# Altium schematic symbol library kmilo17pet-LT_PMIC_LT.SchLib: 2252 symbols (part 37 of 124)
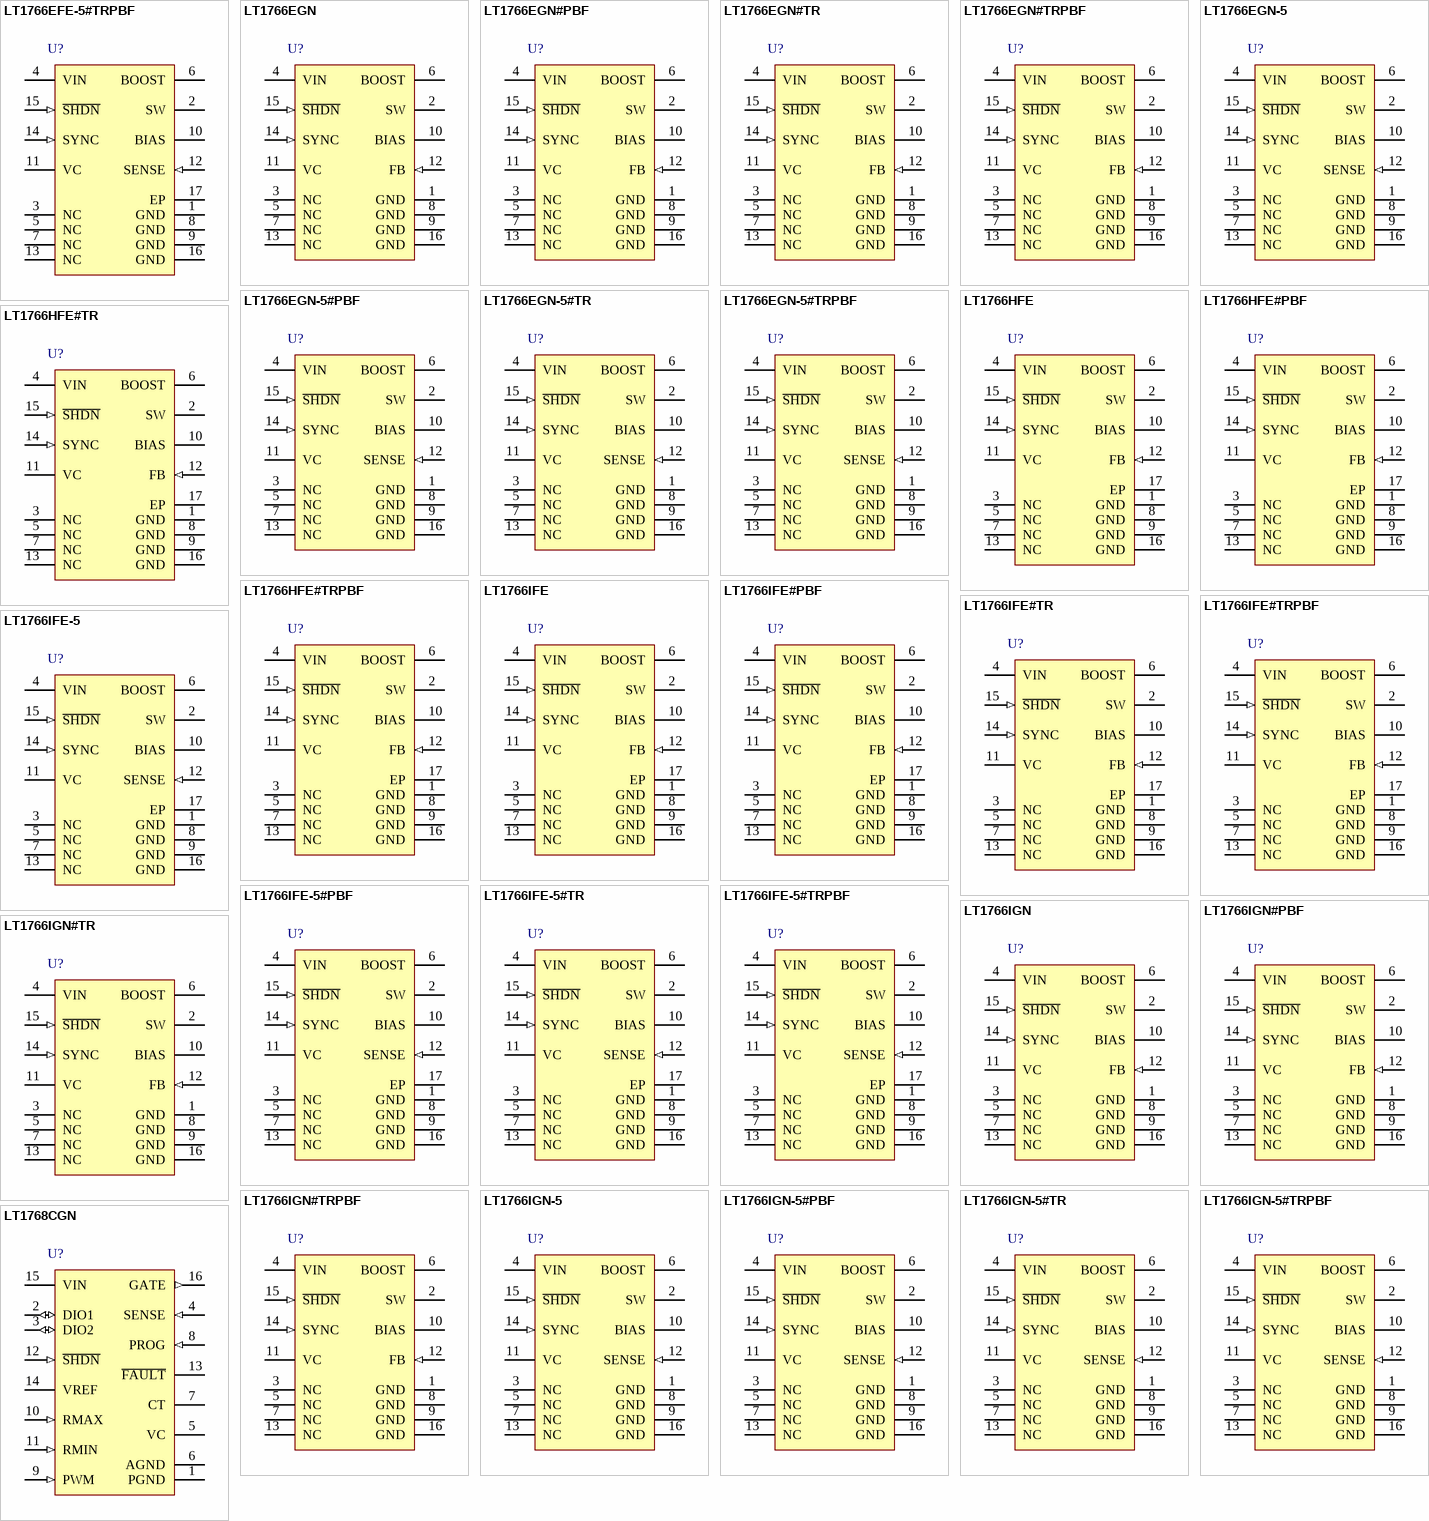
[diagram p107: symbols LT1766EFE-5#TRPBF to LT1768CGN]

## LT1766IGN
designator U?
1.5 A, 200 kHz Step-Down Switching Regulator, 16-pin SOP (GN-16), -40 to 125 degC; Manufacturer: Linear Technology; PartNumber: LT1766IGN; Number of Outputs: 1; PackageReference: GN-16; PackageDescription: 16-Pin Plastic SSOP, Body 4.9 x 3.9 mm, Pitch 0.635 mm; Supplier 1: Digi-Key; Supplier Part Number 1: LT1766IGN-ND; RoHS: FALSE
footprint LT-GN-16_N (SOP, 16-Leads, Body 5x4mm, Pitch 0.635mm, IPC Medium Density)
footprint LT-GN-16_L (SOP, 16-Leads, Body 5x4mm, Pitch 0.635mm, IPC High Density)
footprint LT-GN-16_M (SOP, 16-Leads, Body 5x4mm, Pitch 0.635mm, IPC Low Density)
pins: 1 GND (power) "The GND pin connections act as the reference for the regulated output, so load regulation will suffer if the ¡°ground¡± end of the load is not at the same voltage as the GND pins of the IC. This condition will occur w(See Datasheet)", 2 SW (power) "The switch pin is the emitter of the on-chip power NPN switch. This pin is driven up to the input pin voltage during switch on time. Inductor current drives the switch pin negative during switch off time. Negative voltage is (See Datasheet)", 3 NC "No Connection.", 4 VIN (power) "This is the collector of the on-chip power NPN switch. VIN powers the internal control circuitry when a voltage on the BIAS pin is not present. High dI/dt edges occur on this pin during switch turn on and off. Keep the path (See Datasheet)", 5 NC "No Connection.", 6 BOOST "The BOOST pin is used to provide a drive voltage, higher than the input voltage, to the internal bipolar NPN power switch. Without this added voltage, the typical switch voltage loss would be about 1.5V. The additional BOOST (See Datasheet)", 7 NC "No Connection.", 8 GND (power) "The GND pin connections act as the reference for the regulated output, so load regulation will suffer if the ¡°ground¡± end of the load is not at the same voltage as the GND pins of the IC. This condition will occur w(See Datasheet)", 9 GND (power) "The GND pin connections act as the reference for the regulated output, so load regulation will suffer if the ¡°ground¡± end of the load is not at the same voltage as the GND pins of the IC. This condition will occur w(See Datasheet)", 10 BIAS (power) "The BIAS pin is used to improve efficiency when operating at higher input voltages and light load current. Connecting this pin to the regulated output voltage forces most of the internal circuitry to draw its operating (See Datasheet)", 11 VC "The VC pin is the output of the error amplifier and the input of the peak switch current comparator. It is normally used for frequency compensation, but can also serve as a current clamp or control loop override. VC sits at (See Datasheet)", 12 FB (in) "The feedback pin is used to set the output voltage using an external voltage divider that generates 1.22V at the pin for the desired output voltage. The 5V fixed output voltage parts have the divider included on the chip and (See Datasheet)", 13 NC "No Connection.", 14 SYNC (in) "The SYNC pin is used to synchronize the internal oscillator to an external signal. It is directly logic compatible and can be driven with any signal between 10% and 90% duty cycle. The synchronizing range is equal to initial (See Datasheet)", 15 ~{SHDN} (in) "The S\H\D\N\ pin is used to turn off the regulator and to reduce input current to a few microamperes. This pin has two thresholds: one at 2.38V to disable switching and a second at 0.4V to force complete micropower shutdown. (See Datasheet)", 16 GND (power) "The GND pin connections act as the reference for the regulated output, so load regulation will suffer if the ¡°ground¡± end of the load is not at the same voltage as the GND pins of the IC. This condition will occur w(See Datasheet)"

## LT1766IGN#PBF
designator U?
1.5 A, 200 kHz Step-Down Switching Regulator, 16-pin SOP (GN-16), -40 to 125 degC, Pb-Free; Manufacturer: Linear Technology; PartNumber: LT1766IGN#PBF; Number of Outputs: 1; PackageReference: GN-16; PackageDescription: 16-Pin Plastic SSOP, Body 4.9 x 3.9 mm, Pitch 0.635 mm; Supplier 1: Digi-Key; Supplier Part Number 1: LT1766IGN#PBF-ND; RoHS: TRUE
footprint LT-GN-16_N (SOP, 16-Leads, Body 5x4mm, Pitch 0.635mm, IPC Medium Density)
footprint LT-GN-16_L (SOP, 16-Leads, Body 5x4mm, Pitch 0.635mm, IPC High Density)
footprint LT-GN-16_M (SOP, 16-Leads, Body 5x4mm, Pitch 0.635mm, IPC Low Density)
pins: 1 GND (power) "The GND pin connections act as the reference for the regulated output, so load regulation will suffer if the ¡°ground¡± end of the load is not at the same voltage as the GND pins of the IC. This condition will occur w(See Datasheet)", 2 SW (power) "The switch pin is the emitter of the on-chip power NPN switch. This pin is driven up to the input pin voltage during switch on time. Inductor current drives the switch pin negative during switch off time. Negative voltage is (See Datasheet)", 3 NC "No Connection.", 4 VIN (power) "This is the collector of the on-chip power NPN switch. VIN powers the internal control circuitry when a voltage on the BIAS pin is not present. High dI/dt edges occur on this pin during switch turn on and off. Keep the path (See Datasheet)", 5 NC "No Connection.", 6 BOOST "The BOOST pin is used to provide a drive voltage, higher than the input voltage, to the internal bipolar NPN power switch. Without this added voltage, the typical switch voltage loss would be about 1.5V. The additional BOOST (See Datasheet)", 7 NC "No Connection.", 8 GND (power) "The GND pin connections act as the reference for the regulated output, so load regulation will suffer if the ¡°ground¡± end of the load is not at the same voltage as the GND pins of the IC. This condition will occur w(See Datasheet)", 9 GND (power) "The GND pin connections act as the reference for the regulated output, so load regulation will suffer if the ¡°ground¡± end of the load is not at the same voltage as the GND pins of the IC. This condition will occur w(See Datasheet)", 10 BIAS (power) "The BIAS pin is used to improve efficiency when operating at higher input voltages and light load current. Connecting this pin to the regulated output voltage forces most of the internal circuitry to draw its operating (See Datasheet)", 11 VC "The VC pin is the output of the error amplifier and the input of the peak switch current comparator. It is normally used for frequency compensation, but can also serve as a current clamp or control loop override. VC sits at (See Datasheet)", 12 FB (in) "The feedback pin is used to set the output voltage using an external voltage divider that generates 1.22V at the pin for the desired output voltage. The 5V fixed output voltage parts have the divider included on the chip and (See Datasheet)", 13 NC "No Connection.", 14 SYNC (in) "The SYNC pin is used to synchronize the internal oscillator to an external signal. It is directly logic compatible and can be driven with any signal between 10% and 90% duty cycle. The synchronizing range is equal to initial (See Datasheet)", 15 ~{SHDN} (in) "The S\H\D\N\ pin is used to turn off the regulator and to reduce input current to a few microamperes. This pin has two thresholds: one at 2.38V to disable switching and a second at 0.4V to force complete micropower shutdown. (See Datasheet)", 16 GND (power) "The GND pin connections act as the reference for the regulated output, so load regulation will suffer if the ¡°ground¡± end of the load is not at the same voltage as the GND pins of the IC. This condition will occur w(See Datasheet)"

## LT1766IGN#TR
designator U?
1.5 A, 200 kHz Step-Down Switching Regulator, 16-pin SOP (GN-16), -40 to 125 degC, Tape and Reel; Manufacturer: Linear Technology; PartNumber: LT1766IGN#TR; Number of Outputs: 1; PackageReference: GN-16; PackageDescription: 16-Pin Plastic SSOP, Body 4.9 x 3.9 mm, Pitch 0.635 mm; Supplier 1: Digi-Key; Supplier Part Number 1: LT1766IGNTR-ND; RoHS: FALSE
footprint LT-GN-16_N (SOP, 16-Leads, Body 5x4mm, Pitch 0.635mm, IPC Medium Density)
footprint LT-GN-16_L (SOP, 16-Leads, Body 5x4mm, Pitch 0.635mm, IPC High Density)
footprint LT-GN-16_M (SOP, 16-Leads, Body 5x4mm, Pitch 0.635mm, IPC Low Density)
pins: 1 GND (power) "The GND pin connections act as the reference for the regulated output, so load regulation will suffer if the ¡°ground¡± end of the load is not at the same voltage as the GND pins of the IC. This condition will occur w(See Datasheet)", 2 SW (power) "The switch pin is the emitter of the on-chip power NPN switch. This pin is driven up to the input pin voltage during switch on time. Inductor current drives the switch pin negative during switch off time. Negative voltage is (See Datasheet)", 3 NC "No Connection.", 4 VIN (power) "This is the collector of the on-chip power NPN switch. VIN powers the internal control circuitry when a voltage on the BIAS pin is not present. High dI/dt edges occur on this pin during switch turn on and off. Keep the path (See Datasheet)", 5 NC "No Connection.", 6 BOOST "The BOOST pin is used to provide a drive voltage, higher than the input voltage, to the internal bipolar NPN power switch. Without this added voltage, the typical switch voltage loss would be about 1.5V. The additional BOOST (See Datasheet)", 7 NC "No Connection.", 8 GND (power) "The GND pin connections act as the reference for the regulated output, so load regulation will suffer if the ¡°ground¡± end of the load is not at the same voltage as the GND pins of the IC. This condition will occur w(See Datasheet)", 9 GND (power) "The GND pin connections act as the reference for the regulated output, so load regulation will suffer if the ¡°ground¡± end of the load is not at the same voltage as the GND pins of the IC. This condition will occur w(See Datasheet)", 10 BIAS (power) "The BIAS pin is used to improve efficiency when operating at higher input voltages and light load current. Connecting this pin to the regulated output voltage forces most of the internal circuitry to draw its operating (See Datasheet)", 11 VC "The VC pin is the output of the error amplifier and the input of the peak switch current comparator. It is normally used for frequency compensation, but can also serve as a current clamp or control loop override. VC sits at (See Datasheet)", 12 FB (in) "The feedback pin is used to set the output voltage using an external voltage divider that generates 1.22V at the pin for the desired output voltage. The 5V fixed output voltage parts have the divider included on the chip and (See Datasheet)", 13 NC "No Connection.", 14 SYNC (in) "The SYNC pin is used to synchronize the internal oscillator to an external signal. It is directly logic compatible and can be driven with any signal between 10% and 90% duty cycle. The synchronizing range is equal to initial (See Datasheet)", 15 ~{SHDN} (in) "The S\H\D\N\ pin is used to turn off the regulator and to reduce input current to a few microamperes. This pin has two thresholds: one at 2.38V to disable switching and a second at 0.4V to force complete micropower shutdown. (See Datasheet)", 16 GND (power) "The GND pin connections act as the reference for the regulated output, so load regulation will suffer if the ¡°ground¡± end of the load is not at the same voltage as the GND pins of the IC. This condition will occur w(See Datasheet)"

## LT1766IGN#TRPBF
designator U?
1.5 A, 200 kHz Step-Down Switching Regulator, 16-pin SOP (GN-16), -40 to 125 degC, Pb-Free, Tape and Reel; Manufacturer: Linear Technology; PartNumber: LT1766IGN#TRPBF; Number of Outputs: 1; PackageReference: GN-16; PackageDescription: 16-Pin Plastic SSOP, Body 4.9 x 3.9 mm, Pitch 0.635 mm; Supplier 1: Digi-Key; Supplier Part Number 1: LT1766IGN#TRPBF-ND; RoHS: TRUE
footprint LT-GN-16_N (SOP, 16-Leads, Body 5x4mm, Pitch 0.635mm, IPC Medium Density)
footprint LT-GN-16_L (SOP, 16-Leads, Body 5x4mm, Pitch 0.635mm, IPC High Density)
footprint LT-GN-16_M (SOP, 16-Leads, Body 5x4mm, Pitch 0.635mm, IPC Low Density)
pins: 1 GND (power) "The GND pin connections act as the reference for the regulated output, so load regulation will suffer if the ¡°ground¡± end of the load is not at the same voltage as the GND pins of the IC. This condition will occur w(See Datasheet)", 2 SW (power) "The switch pin is the emitter of the on-chip power NPN switch. This pin is driven up to the input pin voltage during switch on time. Inductor current drives the switch pin negative during switch off time. Negative voltage is (See Datasheet)", 3 NC "No Connection.", 4 VIN (power) "This is the collector of the on-chip power NPN switch. VIN powers the internal control circuitry when a voltage on the BIAS pin is not present. High dI/dt edges occur on this pin during switch turn on and off. Keep the path (See Datasheet)", 5 NC "No Connection.", 6 BOOST "The BOOST pin is used to provide a drive voltage, higher than the input voltage, to the internal bipolar NPN power switch. Without this added voltage, the typical switch voltage loss would be about 1.5V. The additional BOOST (See Datasheet)", 7 NC "No Connection.", 8 GND (power) "The GND pin connections act as the reference for the regulated output, so load regulation will suffer if the ¡°ground¡± end of the load is not at the same voltage as the GND pins of the IC. This condition will occur w(See Datasheet)", 9 GND (power) "The GND pin connections act as the reference for the regulated output, so load regulation will suffer if the ¡°ground¡± end of the load is not at the same voltage as the GND pins of the IC. This condition will occur w(See Datasheet)", 10 BIAS (power) "The BIAS pin is used to improve efficiency when operating at higher input voltages and light load current. Connecting this pin to the regulated output voltage forces most of the internal circuitry to draw its operating (See Datasheet)", 11 VC "The VC pin is the output of the error amplifier and the input of the peak switch current comparator. It is normally used for frequency compensation, but can also serve as a current clamp or control loop override. VC sits at (See Datasheet)", 12 FB (in) "The feedback pin is used to set the output voltage using an external voltage divider that generates 1.22V at the pin for the desired output voltage. The 5V fixed output voltage parts have the divider included on the chip and (See Datasheet)", 13 NC "No Connection.", 14 SYNC (in) "The SYNC pin is used to synchronize the internal oscillator to an external signal. It is directly logic compatible and can be driven with any signal between 10% and 90% duty cycle. The synchronizing range is equal to initial (See Datasheet)", 15 ~{SHDN} (in) "The S\H\D\N\ pin is used to turn off the regulator and to reduce input current to a few microamperes. This pin has two thresholds: one at 2.38V to disable switching and a second at 0.4V to force complete micropower shutdown. (See Datasheet)", 16 GND (power) "The GND pin connections act as the reference for the regulated output, so load regulation will suffer if the ¡°ground¡± end of the load is not at the same voltage as the GND pins of the IC. This condition will occur w(See Datasheet)"

## LT1766IGN-5
designator U?
1.5 A, 200 kHz Step-Down Switching Regulator, 16-pin SOP (GN-16), -40 to 125 degC; Manufacturer: Linear Technology; PartNumber: LT1766IGN-5; Number of Outputs: 1; PackageReference: GN-16; PackageDescription: 16-Pin Plastic SSOP, Body 4.9 x 3.9 mm, Pitch 0.635 mm; Supplier 1: Digi-Key; Supplier Part Number 1: LT1766IGN-5-ND; RoHS: FALSE
footprint LT-GN-16_N (SOP, 16-Leads, Body 5x4mm, Pitch 0.635mm, IPC Medium Density)
footprint LT-GN-16_L (SOP, 16-Leads, Body 5x4mm, Pitch 0.635mm, IPC High Density)
footprint LT-GN-16_M (SOP, 16-Leads, Body 5x4mm, Pitch 0.635mm, IPC Low Density)
pins: 1 GND (power) "The GND pin connections act as the reference for the regulated output, so load regulation will suffer if the “ground?end of the load is not at the same voltage as the GND pins of the IC. This condition will occur w(See Datasheet)", 2 SW (power) "The switch pin is the emitter of the on-chip power NPN switch. This pin is driven up to the input pin voltage during switch on time. Inductor current drives the switch pin negative during switch off time. Negative voltage is (See Datasheet)", 3 NC "No Connection.", 4 VIN (power) "This is the collector of the on-chip power NPN switch. VIN powers the internal control circuitry when a voltage on the BIAS pin is not present. High dI/dt edges occur on this pin during switch turn on and off. Keep the path (See Datasheet)", 5 NC "No Connection.", 6 BOOST "The BOOST pin is used to provide a drive voltage, higher than the input voltage, to the internal bipolar NPN power switch. Without this added voltage, the typical switch voltage loss would be about 1.5V. The additional BOOST (See Datasheet)", 7 NC "No Connection.", 8 GND (power) "The GND pin connections act as the reference for the regulated output, so load regulation will suffer if the “ground?end of the load is not at the same voltage as the GND pins of the IC. This condition will occur w(See Datasheet)", 9 GND (power) "The GND pin connections act as the reference for the regulated output, so load regulation will suffer if the “ground?end of the load is not at the same voltage as the GND pins of the IC. This condition will occur w(See Datasheet)", 10 BIAS (power) "The BIAS pin is used to improve efficiency when operating at higher input voltages and light load current. Connecting this pin to the regulated output voltage forces most of the internal circuitry to draw its operating (See Datasheet)", 11 VC "The VC pin is the output of the error amplifier and the input of the peak switch current comparator. It is normally used for frequency compensation, but can also serve as a current clamp or control loop override. VC sits at (See Datasheet)", 12 SENSE (in) "The feedback pin is used to set the output voltage using an external voltage divider that generates 1.22V at the pin for the desired output voltage. The 5V fixed output voltage parts have the divider included on the chip and (See Datasheet)", 13 NC "No Connection.", 14 SYNC (in) "The SYNC pin is used to synchronize the internal oscillator to an external signal. It is directly logic compatible and can be driven with any signal between 10% and 90% duty cycle. The synchronizing range is equal to initial (See Datasheet)", 15 ~{SHDN} (in) "The S\H\D\N\ pin is used to turn off the regulator and to reduce input current to a few microamperes. This pin has two thresholds: one at 2.38V to disable switching and a second at 0.4V to force complete micropower shutdown. (See Datasheet)", 16 GND (power) "The GND pin connections act as the reference for the regulated output, so load regulation will suffer if the “ground?end of the load is not at the same voltage as the GND pins of the IC. This condition will occur w(See Datasheet)"

## LT1766IGN-5#PBF
designator U?
1.5 A, 200 kHz Step-Down Switching Regulator, 16-pin SOP (GN-16), -40 to 125 degC, Pb-Free; Manufacturer: Linear Technology; PartNumber: LT1766IGN-5#PBF; Number of Outputs: 1; PackageReference: GN-16; PackageDescription: 16-Pin Plastic SSOP, Body 4.9 x 3.9 mm, Pitch 0.635 mm; Supplier 1: Digi-Key; Supplier Part Number 1: LT1766IGN-5#PBF-ND; RoHS: TRUE
footprint LT-GN-16_N (SOP, 16-Leads, Body 5x4mm, Pitch 0.635mm, IPC Medium Density)
footprint LT-GN-16_L (SOP, 16-Leads, Body 5x4mm, Pitch 0.635mm, IPC High Density)
footprint LT-GN-16_M (SOP, 16-Leads, Body 5x4mm, Pitch 0.635mm, IPC Low Density)
pins: 1 GND (power) "The GND pin connections act as the reference for the regulated output, so load regulation will suffer if the “ground?end of the load is not at the same voltage as the GND pins of the IC. This condition will occur w(See Datasheet)", 2 SW (power) "The switch pin is the emitter of the on-chip power NPN switch. This pin is driven up to the input pin voltage during switch on time. Inductor current drives the switch pin negative during switch off time. Negative voltage is (See Datasheet)", 3 NC "No Connection.", 4 VIN (power) "This is the collector of the on-chip power NPN switch. VIN powers the internal control circuitry when a voltage on the BIAS pin is not present. High dI/dt edges occur on this pin during switch turn on and off. Keep the path (See Datasheet)", 5 NC "No Connection.", 6 BOOST "The BOOST pin is used to provide a drive voltage, higher than the input voltage, to the internal bipolar NPN power switch. Without this added voltage, the typical switch voltage loss would be about 1.5V. The additional BOOST (See Datasheet)", 7 NC "No Connection.", 8 GND (power) "The GND pin connections act as the reference for the regulated output, so load regulation will suffer if the “ground?end of the load is not at the same voltage as the GND pins of the IC. This condition will occur w(See Datasheet)", 9 GND (power) "The GND pin connections act as the reference for the regulated output, so load regulation will suffer if the “ground?end of the load is not at the same voltage as the GND pins of the IC. This condition will occur w(See Datasheet)", 10 BIAS (power) "The BIAS pin is used to improve efficiency when operating at higher input voltages and light load current. Connecting this pin to the regulated output voltage forces most of the internal circuitry to draw its operating (See Datasheet)", 11 VC "The VC pin is the output of the error amplifier and the input of the peak switch current comparator. It is normally used for frequency compensation, but can also serve as a current clamp or control loop override. VC sits at (See Datasheet)", 12 SENSE (in) "The feedback pin is used to set the output voltage using an external voltage divider that generates 1.22V at the pin for the desired output voltage. The 5V fixed output voltage parts have the divider included on the chip and (See Datasheet)", 13 NC "No Connection.", 14 SYNC (in) "The SYNC pin is used to synchronize the internal oscillator to an external signal. It is directly logic compatible and can be driven with any signal between 10% and 90% duty cycle. The synchronizing range is equal to initial (See Datasheet)", 15 ~{SHDN} (in) "The S\H\D\N\ pin is used to turn off the regulator and to reduce input current to a few microamperes. This pin has two thresholds: one at 2.38V to disable switching and a second at 0.4V to force complete micropower shutdown. (See Datasheet)", 16 GND (power) "The GND pin connections act as the reference for the regulated output, so load regulation will suffer if the “ground?end of the load is not at the same voltage as the GND pins of the IC. This condition will occur w(See Datasheet)"

## LT1766IGN-5#TR
designator U?
1.5 A, 200 kHz Step-Down Switching Regulator, 16-pin SOP (GN-16), -40 to 125 degC, Tape and Reel; Manufacturer: Linear Technology; PartNumber: LT1766IGN-5#TR; Number of Outputs: 1; PackageReference: GN-16; PackageDescription: 16-Pin Plastic SSOP, Body 4.9 x 3.9 mm, Pitch 0.635 mm; Supplier 1: Digi-Key; Supplier Part Number 1: LT1766IGN-5TR-ND; RoHS: FALSE
footprint LT-GN-16_N (SOP, 16-Leads, Body 5x4mm, Pitch 0.635mm, IPC Medium Density)
footprint LT-GN-16_L (SOP, 16-Leads, Body 5x4mm, Pitch 0.635mm, IPC High Density)
footprint LT-GN-16_M (SOP, 16-Leads, Body 5x4mm, Pitch 0.635mm, IPC Low Density)
pins: 1 GND (power) "The GND pin connections act as the reference for the regulated output, so load regulation will suffer if the “ground?end of the load is not at the same voltage as the GND pins of the IC. This condition will occur w(See Datasheet)", 2 SW (power) "The switch pin is the emitter of the on-chip power NPN switch. This pin is driven up to the input pin voltage during switch on time. Inductor current drives the switch pin negative during switch off time. Negative voltage is (See Datasheet)", 3 NC "No Connection.", 4 VIN (power) "This is the collector of the on-chip power NPN switch. VIN powers the internal control circuitry when a voltage on the BIAS pin is not present. High dI/dt edges occur on this pin during switch turn on and off. Keep the path (See Datasheet)", 5 NC "No Connection.", 6 BOOST "The BOOST pin is used to provide a drive voltage, higher than the input voltage, to the internal bipolar NPN power switch. Without this added voltage, the typical switch voltage loss would be about 1.5V. The additional BOOST (See Datasheet)", 7 NC "No Connection.", 8 GND (power) "The GND pin connections act as the reference for the regulated output, so load regulation will suffer if the “ground?end of the load is not at the same voltage as the GND pins of the IC. This condition will occur w(See Datasheet)", 9 GND (power) "The GND pin connections act as the reference for the regulated output, so load regulation will suffer if the “ground?end of the load is not at the same voltage as the GND pins of the IC. This condition will occur w(See Datasheet)", 10 BIAS (power) "The BIAS pin is used to improve efficiency when operating at higher input voltages and light load current. Connecting this pin to the regulated output voltage forces most of the internal circuitry to draw its operating (See Datasheet)", 11 VC "The VC pin is the output of the error amplifier and the input of the peak switch current comparator. It is normally used for frequency compensation, but can also serve as a current clamp or control loop override. VC sits at (See Datasheet)", 12 SENSE (in) "The feedback pin is used to set the output voltage using an external voltage divider that generates 1.22V at the pin for the desired output voltage. The 5V fixed output voltage parts have the divider included on the chip and (See Datasheet)", 13 NC "No Connection.", 14 SYNC (in) "The SYNC pin is used to synchronize the internal oscillator to an external signal. It is directly logic compatible and can be driven with any signal between 10% and 90% duty cycle. The synchronizing range is equal to initial (See Datasheet)", 15 ~{SHDN} (in) "The S\H\D\N\ pin is used to turn off the regulator and to reduce input current to a few microamperes. This pin has two thresholds: one at 2.38V to disable switching and a second at 0.4V to force complete micropower shutdown. (See Datasheet)", 16 GND (power) "The GND pin connections act as the reference for the regulated output, so load regulation will suffer if the “ground?end of the load is not at the same voltage as the GND pins of the IC. This condition will occur w(See Datasheet)"

## LT1766IGN-5#TRPBF
designator U?
1.5 A, 200 kHz Step-Down Switching Regulator, 16-pin SOP (GN-16), -40 to 125 degC, Pb-Free, Tape and Reel; Manufacturer: Linear Technology; PartNumber: LT1766IGN-5#TRPBF; Number of Outputs: 1; PackageReference: GN-16; PackageDescription: 16-Pin Plastic SSOP, Body 4.9 x 3.9 mm, Pitch 0.635 mm; Supplier 1: Digi-Key; Supplier Part Number 1: LT1766IGN-5#TRPBF-ND; RoHS: TRUE
footprint LT-GN-16_N (SOP, 16-Leads, Body 5x4mm, Pitch 0.635mm, IPC Medium Density)
footprint LT-GN-16_L (SOP, 16-Leads, Body 5x4mm, Pitch 0.635mm, IPC High Density)
footprint LT-GN-16_M (SOP, 16-Leads, Body 5x4mm, Pitch 0.635mm, IPC Low Density)
pins: 1 GND (power) "The GND pin connections act as the reference for the regulated output, so load regulation will suffer if the “ground?end of the load is not at the same voltage as the GND pins of the IC. This condition will occur w(See Datasheet)", 2 SW (power) "The switch pin is the emitter of the on-chip power NPN switch. This pin is driven up to the input pin voltage during switch on time. Inductor current drives the switch pin negative during switch off time. Negative voltage is (See Datasheet)", 3 NC "No Connection.", 4 VIN (power) "This is the collector of the on-chip power NPN switch. VIN powers the internal control circuitry when a voltage on the BIAS pin is not present. High dI/dt edges occur on this pin during switch turn on and off. Keep the path (See Datasheet)", 5 NC "No Connection.", 6 BOOST "The BOOST pin is used to provide a drive voltage, higher than the input voltage, to the internal bipolar NPN power switch. Without this added voltage, the typical switch voltage loss would be about 1.5V. The additional BOOST (See Datasheet)", 7 NC "No Connection.", 8 GND (power) "The GND pin connections act as the reference for the regulated output, so load regulation will suffer if the “ground?end of the load is not at the same voltage as the GND pins of the IC. This condition will occur w(See Datasheet)", 9 GND (power) "The GND pin connections act as the reference for the regulated output, so load regulation will suffer if the “ground?end of the load is not at the same voltage as the GND pins of the IC. This condition will occur w(See Datasheet)", 10 BIAS (power) "The BIAS pin is used to improve efficiency when operating at higher input voltages and light load current. Connecting this pin to the regulated output voltage forces most of the internal circuitry to draw its operating (See Datasheet)", 11 VC "The VC pin is the output of the error amplifier and the input of the peak switch current comparator. It is normally used for frequency compensation, but can also serve as a current clamp or control loop override. VC sits at (See Datasheet)", 12 SENSE (in) "The feedback pin is used to set the output voltage using an external voltage divider that generates 1.22V at the pin for the desired output voltage. The 5V fixed output voltage parts have the divider included on the chip and (See Datasheet)", 13 NC "No Connection.", 14 SYNC (in) "The SYNC pin is used to synchronize the internal oscillator to an external signal. It is directly logic compatible and can be driven with any signal between 10% and 90% duty cycle. The synchronizing range is equal to initial (See Datasheet)", 15 ~{SHDN} (in) "The S\H\D\N\ pin is used to turn off the regulator and to reduce input current to a few microamperes. This pin has two thresholds: one at 2.38V to disable switching and a second at 0.4V to force complete micropower shutdown. (See Datasheet)", 16 GND (power) "The GND pin connections act as the reference for the regulated output, so load regulation will suffer if the “ground?end of the load is not at the same voltage as the GND pins of the IC. This condition will occur w(See Datasheet)"

## LT1768CGN
designator U?
High Power CCFL Controller for Wide Dimming Range and Maximum Lamp Lifetime Max, 16-pin SOP (GN-16), 0 to 125 degC; Manufacturer: Linear Technology; PartNumber: LT1768CGN; Number of Outputs: 1; PackageReference: GN-16; PackageDescription: 16-Pin Plastic SSOP, Body 4.9 x 3.9 mm, Pitch 0.635 mm; Supplier 1: Digi-Key; Supplier Part Number 1: LT1768CGN-ND; RoHS: FALSE
footprint LT-GN-16_N (SOP, 16-Leads, Body 5x4mm, Pitch 0.635mm, IPC Medium Density)
footprint LT-GN-16_L (SOP, 16-Leads, Body 5x4mm, Pitch 0.635mm, IPC High Density)
footprint LT-GN-16_M (SOP, 16-Leads, Body 5x4mm, Pitch 0.635mm, IPC Low Density)
pins: 1 PGND (power) "The PGND pin is the high current ground path. High switching current transients and lamp current flow through the PGND pin.", 2 DIO1 (io) "Each DIO pin is the common connection between the cathode and anode of two internal diodes. The remaining terminals of the diodes are connected to PGND. In a typical application, the DIO1/2 pins are connected to the low (See Datasheet)", 3 DIO2 (io) "Each DIO pin is the common connection between the cathode and anode of two internal diodes. The remaining terminals of the diodes are connected to PGND. In a typical application, the DIO1/2 pins are connected to the low (See Datasheet)", 4 SENSE (in) "The SENSE pin is the input to the current sense comparator. The threshold of the comparator is a function of the voltage on the VC pin and the switch duty cycle. The maximum threshold is set at 100mV for duty cycle less than (See Datasheet)", 5 VC "The VC pin is the summing junction for the programming current and the half wave rectified lamp current and is also an input to the current sense comparator . A fraction of the voltage on the VC pin is compared to the (See Datasheet)", 6 AGND (power) "The AGND pin is the low current analog ground. It is the negative sense terminal for the internal reference and current sense amplifier. Connect critical external components that terminate to ground directly to this pin for (See Datasheet)", 7 CT "The value of capacitance on the CT pin determines the PWM modulation frequency. The transfer function of capacitance to frequency equals 22Hz/CT(uF). The frequency present on the CT pin also determines the maximum time (See Datasheet)", 8 PROG (in) "The PROG pin controls the lamp current by converting a DC input voltage range of 0V to 5V to source current into the VC pin. The transfer function from programming voltage to VC current is illustrated in the following table.", 9 PWM (in) "The PWM pin controls the percentage of the PROG range between 1V and 4V that is to be pulse width modulated. The percentage is defined by [(VPWM-1)/ 3] ?100%. The minimum and maximum percentages are 25% (1.75V) and 100(See Datasheet)", 10 RMAX (in) "The RMAX pin outputs a regulated voltage of 1.25V that is to be loaded with an external resistor. The current through the external resistor sets the maximum lamp current. Maximum lamp current in a dual lamp application will (See Datasheet)", 11 RMIN (in) "The RMIN pin outputs a regulated voltage of 1.26V that is to be loaded with an external resistor. The current through the external resistor sets the minimum lamp current. Minimum lamp current in a dual lamp application will (See Datasheet)", 12 ~{SHDN} (in) "The S\H\D\N\ pin controls the operation of the LT1768. Pulling the S\H\D\N\ pin above 1.26V or leaving the pin open will result in normal operation of the LT1768. Pulling the S\H\D\N\ pin below 1V causes a complete shutdown (See Datasheet)", 13 ~{FAULT} (oc) "The F\A\U\L\T\ pin is an open collector output with a sink capability of 1mA that is activated when lamp current falls below 125uA in either DIO1 or DIO2 for at least 1 full PWM cycle.", 14 VREF (power) "The VREF pin is a regulated 5V output that is derived from the VIN pin. The regulated voltage provides up to 10mA of current to power external circuitry. During undervoltage lockout, shutdown mode or thermal shutdown, drive (See Datasheet)", 15 VIN (power) "The VIN pin is the voltage supply pin for the LT1768. For normal operation, the VIN pin must be above an undervoltage lockout of 7.9V and below a maximum of 24V.", 16 GATE (out) "The GATE pin is the output of a NPN high current output stage used to drive the gate of an external MOSFET. It has a dynamic source and sink capability of 1.5A. During normal operation, the GATE pin is driven high at the (See Datasheet)"

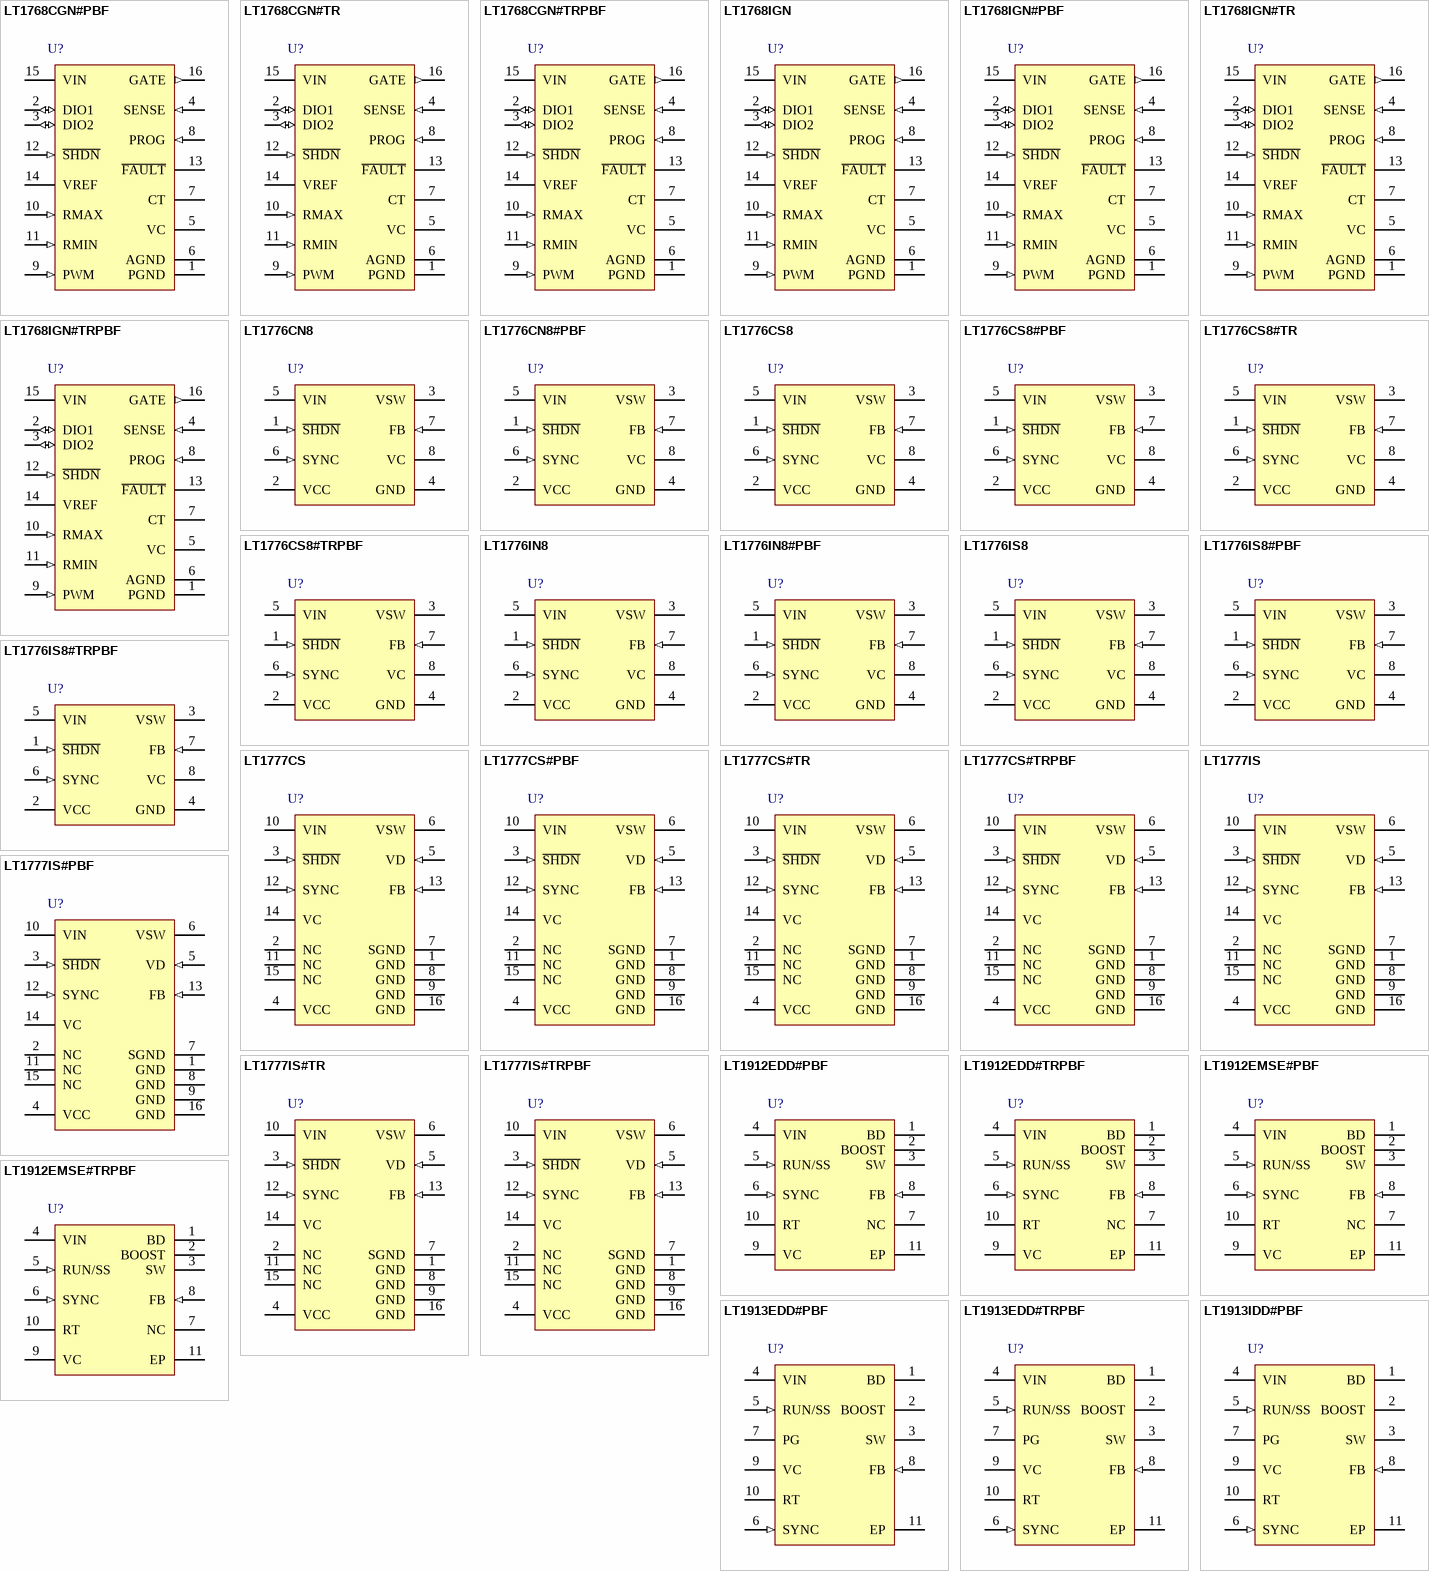
[diagram p23: symbols LT1768CGN#PBF to LT1913IDD#PBF]

## LT1768CGN#PBF
designator U?
High Power CCFL Controller for Wide Dimming Range and Maximum Lamp Lifetime Max, 16-pin SOP (GN-16), 0 to 125 degC, Pb-Free; Manufacturer: Linear Technology; PartNumber: LT1768CGN#PBF; Number of Outputs: 1; PackageReference: GN-16; PackageDescription: 16-Pin Plastic SSOP, Body 4.9 x 3.9 mm, Pitch 0.635 mm; Supplier 1: Digi-Key; Supplier Part Number 1: LT1768CGN#PBF-ND; RoHS: TRUE
footprint LT-GN-16_N (SOP, 16-Leads, Body 5x4mm, Pitch 0.635mm, IPC Medium Density)
footprint LT-GN-16_L (SOP, 16-Leads, Body 5x4mm, Pitch 0.635mm, IPC High Density)
footprint LT-GN-16_M (SOP, 16-Leads, Body 5x4mm, Pitch 0.635mm, IPC Low Density)
pins: 1 PGND (power) "The PGND pin is the high current ground path. High switching current transients and lamp current flow through the PGND pin.", 2 DIO1 (io) "Each DIO pin is the common connection between the cathode and anode of two internal diodes. The remaining terminals of the diodes are connected to PGND. In a typical application, the DIO1/2 pins are connected to the low (See Datasheet)", 3 DIO2 (io) "Each DIO pin is the common connection between the cathode and anode of two internal diodes. The remaining terminals of the diodes are connected to PGND. In a typical application, the DIO1/2 pins are connected to the low (See Datasheet)", 4 SENSE (in) "The SENSE pin is the input to the current sense comparator. The threshold of the comparator is a function of the voltage on the VC pin and the switch duty cycle. The maximum threshold is set at 100mV for duty cycle less than (See Datasheet)", 5 VC "The VC pin is the summing junction for the programming current and the half wave rectified lamp current and is also an input to the current sense comparator . A fraction of the voltage on the VC pin is compared to the (See Datasheet)", 6 AGND (power) "The AGND pin is the low current analog ground. It is the negative sense terminal for the internal reference and current sense amplifier. Connect critical external components that terminate to ground directly to this pin for (See Datasheet)", 7 CT "The value of capacitance on the CT pin determines the PWM modulation frequency. The transfer function of capacitance to frequency equals 22Hz/CT(uF). The frequency present on the CT pin also determines the maximum time (See Datasheet)", 8 PROG (in) "The PROG pin controls the lamp current by converting a DC input voltage range of 0V to 5V to source current into the VC pin. The transfer function from programming voltage to VC current is illustrated in the following table.", 9 PWM (in) "The PWM pin controls the percentage of the PROG range between 1V and 4V that is to be pulse width modulated. The percentage is defined by [(VPWM-1)/ 3] ?100%. The minimum and maximum percentages are 25% (1.75V) and 100(See Datasheet)", 10 RMAX (in) "The RMAX pin outputs a regulated voltage of 1.25V that is to be loaded with an external resistor. The current through the external resistor sets the maximum lamp current. Maximum lamp current in a dual lamp application will (See Datasheet)", 11 RMIN (in) "The RMIN pin outputs a regulated voltage of 1.26V that is to be loaded with an external resistor. The current through the external resistor sets the minimum lamp current. Minimum lamp current in a dual lamp application will (See Datasheet)", 12 ~{SHDN} (in) "The S\H\D\N\ pin controls the operation of the LT1768. Pulling the S\H\D\N\ pin above 1.26V or leaving the pin open will result in normal operation of the LT1768. Pulling the S\H\D\N\ pin below 1V causes a complete shutdown (See Datasheet)", 13 ~{FAULT} (oc) "The F\A\U\L\T\ pin is an open collector output with a sink capability of 1mA that is activated when lamp current falls below 125uA in either DIO1 or DIO2 for at least 1 full PWM cycle.", 14 VREF (power) "The VREF pin is a regulated 5V output that is derived from the VIN pin. The regulated voltage provides up to 10mA of current to power external circuitry. During undervoltage lockout, shutdown mode or thermal shutdown, drive (See Datasheet)", 15 VIN (power) "The VIN pin is the voltage supply pin for the LT1768. For normal operation, the VIN pin must be above an undervoltage lockout of 7.9V and below a maximum of 24V.", 16 GATE (out) "The GATE pin is the output of a NPN high current output stage used to drive the gate of an external MOSFET. It has a dynamic source and sink capability of 1.5A. During normal operation, the GATE pin is driven high at the (See Datasheet)"

## LT1768CGN#TR
designator U?
High Power CCFL Controller for Wide Dimming Range and Maximum Lamp Lifetime Max, 16-pin SOP (GN-16), 0 to 125 degC, Tape and Reel; Manufacturer: Linear Technology; PartNumber: LT1768CGN#TR; Number of Outputs: 1; PackageReference: GN-16; PackageDescription: 16-Pin Plastic SSOP, Body 4.9 x 3.9 mm, Pitch 0.635 mm; Supplier 1: Digi-Key; Supplier Part Number 1: LT1768CGN#TR-ND; RoHS: FALSE
footprint LT-GN-16_N (SOP, 16-Leads, Body 5x4mm, Pitch 0.635mm, IPC Medium Density)
footprint LT-GN-16_L (SOP, 16-Leads, Body 5x4mm, Pitch 0.635mm, IPC High Density)
footprint LT-GN-16_M (SOP, 16-Leads, Body 5x4mm, Pitch 0.635mm, IPC Low Density)
pins: 1 PGND (power) "The PGND pin is the high current ground path. High switching current transients and lamp current flow through the PGND pin.", 2 DIO1 (io) "Each DIO pin is the common connection between the cathode and anode of two internal diodes. The remaining terminals of the diodes are connected to PGND. In a typical application, the DIO1/2 pins are connected to the low (See Datasheet)", 3 DIO2 (io) "Each DIO pin is the common connection between the cathode and anode of two internal diodes. The remaining terminals of the diodes are connected to PGND. In a typical application, the DIO1/2 pins are connected to the low (See Datasheet)", 4 SENSE (in) "The SENSE pin is the input to the current sense comparator. The threshold of the comparator is a function of the voltage on the VC pin and the switch duty cycle. The maximum threshold is set at 100mV for duty cycle less than (See Datasheet)", 5 VC "The VC pin is the summing junction for the programming current and the half wave rectified lamp current and is also an input to the current sense comparator . A fraction of the voltage on the VC pin is compared to the (See Datasheet)", 6 AGND (power) "The AGND pin is the low current analog ground. It is the negative sense terminal for the internal reference and current sense amplifier. Connect critical external components that terminate to ground directly to this pin for (See Datasheet)", 7 CT "The value of capacitance on the CT pin determines the PWM modulation frequency. The transfer function of capacitance to frequency equals 22Hz/CT(uF). The frequency present on the CT pin also determines the maximum time (See Datasheet)", 8 PROG (in) "The PROG pin controls the lamp current by converting a DC input voltage range of 0V to 5V to source current into the VC pin. The transfer function from programming voltage to VC current is illustrated in the following table.", 9 PWM (in) "The PWM pin controls the percentage of the PROG range between 1V and 4V that is to be pulse width modulated. The percentage is defined by [(VPWM-1)/ 3] ?100%. The minimum and maximum percentages are 25% (1.75V) and 100(See Datasheet)", 10 RMAX (in) "The RMAX pin outputs a regulated voltage of 1.25V that is to be loaded with an external resistor. The current through the external resistor sets the maximum lamp current. Maximum lamp current in a dual lamp application will (See Datasheet)", 11 RMIN (in) "The RMIN pin outputs a regulated voltage of 1.26V that is to be loaded with an external resistor. The current through the external resistor sets the minimum lamp current. Minimum lamp current in a dual lamp application will (See Datasheet)", 12 ~{SHDN} (in) "The S\H\D\N\ pin controls the operation of the LT1768. Pulling the S\H\D\N\ pin above 1.26V or leaving the pin open will result in normal operation of the LT1768. Pulling the S\H\D\N\ pin below 1V causes a complete shutdown (See Datasheet)", 13 ~{FAULT} (oc) "The F\A\U\L\T\ pin is an open collector output with a sink capability of 1mA that is activated when lamp current falls below 125uA in either DIO1 or DIO2 for at least 1 full PWM cycle.", 14 VREF (power) "The VREF pin is a regulated 5V output that is derived from the VIN pin. The regulated voltage provides up to 10mA of current to power external circuitry. During undervoltage lockout, shutdown mode or thermal shutdown, drive (See Datasheet)", 15 VIN (power) "The VIN pin is the voltage supply pin for the LT1768. For normal operation, the VIN pin must be above an undervoltage lockout of 7.9V and below a maximum of 24V.", 16 GATE (out) "The GATE pin is the output of a NPN high current output stage used to drive the gate of an external MOSFET. It has a dynamic source and sink capability of 1.5A. During normal operation, the GATE pin is driven high at the (See Datasheet)"

## LT1768CGN#TRPBF
designator U?
High Power CCFL Controller for Wide Dimming Range and Maximum Lamp Lifetime Max, 16-pin SOP (GN-16), 0 to 125 degC, Pb-Free, Tape and Reel; Manufacturer: Linear Technology; PartNumber: LT1768CGN#TRPBF; Number of Outputs: 1; PackageReference: GN-16; PackageDescription: 16-Pin Plastic SSOP, Body 4.9 x 3.9 mm, Pitch 0.635 mm; Supplier 1: Digi-Key; Supplier Part Number 1: LT1768CGN#TRPBF-ND; RoHS: TRUE
footprint LT-GN-16_N (SOP, 16-Leads, Body 5x4mm, Pitch 0.635mm, IPC Medium Density)
footprint LT-GN-16_L (SOP, 16-Leads, Body 5x4mm, Pitch 0.635mm, IPC High Density)
footprint LT-GN-16_M (SOP, 16-Leads, Body 5x4mm, Pitch 0.635mm, IPC Low Density)
pins: 1 PGND (power) "The PGND pin is the high current ground path. High switching current transients and lamp current flow through the PGND pin.", 2 DIO1 (io) "Each DIO pin is the common connection between the cathode and anode of two internal diodes. The remaining terminals of the diodes are connected to PGND. In a typical application, the DIO1/2 pins are connected to the low (See Datasheet)", 3 DIO2 (io) "Each DIO pin is the common connection between the cathode and anode of two internal diodes. The remaining terminals of the diodes are connected to PGND. In a typical application, the DIO1/2 pins are connected to the low (See Datasheet)", 4 SENSE (in) "The SENSE pin is the input to the current sense comparator. The threshold of the comparator is a function of the voltage on the VC pin and the switch duty cycle. The maximum threshold is set at 100mV for duty cycle less than (See Datasheet)", 5 VC "The VC pin is the summing junction for the programming current and the half wave rectified lamp current and is also an input to the current sense comparator . A fraction of the voltage on the VC pin is compared to the (See Datasheet)", 6 AGND (power) "The AGND pin is the low current analog ground. It is the negative sense terminal for the internal reference and current sense amplifier. Connect critical external components that terminate to ground directly to this pin for (See Datasheet)", 7 CT "The value of capacitance on the CT pin determines the PWM modulation frequency. The transfer function of capacitance to frequency equals 22Hz/CT(uF). The frequency present on the CT pin also determines the maximum time (See Datasheet)", 8 PROG (in) "The PROG pin controls the lamp current by converting a DC input voltage range of 0V to 5V to source current into the VC pin. The transfer function from programming voltage to VC current is illustrated in the following table.", 9 PWM (in) "The PWM pin controls the percentage of the PROG range between 1V and 4V that is to be pulse width modulated. The percentage is defined by [(VPWM-1)/ 3] ?100%. The minimum and maximum percentages are 25% (1.75V) and 100(See Datasheet)", 10 RMAX (in) "The RMAX pin outputs a regulated voltage of 1.25V that is to be loaded with an external resistor. The current through the external resistor sets the maximum lamp current. Maximum lamp current in a dual lamp application will (See Datasheet)", 11 RMIN (in) "The RMIN pin outputs a regulated voltage of 1.26V that is to be loaded with an external resistor. The current through the external resistor sets the minimum lamp current. Minimum lamp current in a dual lamp application will (See Datasheet)", 12 ~{SHDN} (in) "The S\H\D\N\ pin controls the operation of the LT1768. Pulling the S\H\D\N\ pin above 1.26V or leaving the pin open will result in normal operation of the LT1768. Pulling the S\H\D\N\ pin below 1V causes a complete shutdown (See Datasheet)", 13 ~{FAULT} (oc) "The F\A\U\L\T\ pin is an open collector output with a sink capability of 1mA that is activated when lamp current falls below 125uA in either DIO1 or DIO2 for at least 1 full PWM cycle.", 14 VREF (power) "The VREF pin is a regulated 5V output that is derived from the VIN pin. The regulated voltage provides up to 10mA of current to power external circuitry. During undervoltage lockout, shutdown mode or thermal shutdown, drive (See Datasheet)", 15 VIN (power) "The VIN pin is the voltage supply pin for the LT1768. For normal operation, the VIN pin must be above an undervoltage lockout of 7.9V and below a maximum of 24V.", 16 GATE (out) "The GATE pin is the output of a NPN high current output stage used to drive the gate of an external MOSFET. It has a dynamic source and sink capability of 1.5A. During normal operation, the GATE pin is driven high at the (See Datasheet)"